# Altium footprint library UZOhm_Optical.PcbLib: 26 footprints (part 1 of 2)
Each footprint in its own frame and in the unit in brackets; x right, y up, seen from the top. Pads: shape width x height; smd on the part's side, far side on the other; paste and mask are expansions set on the pad; w line width, h text height; cw(c..) or ccw(c..) is an arc to the next point about the centre after c.
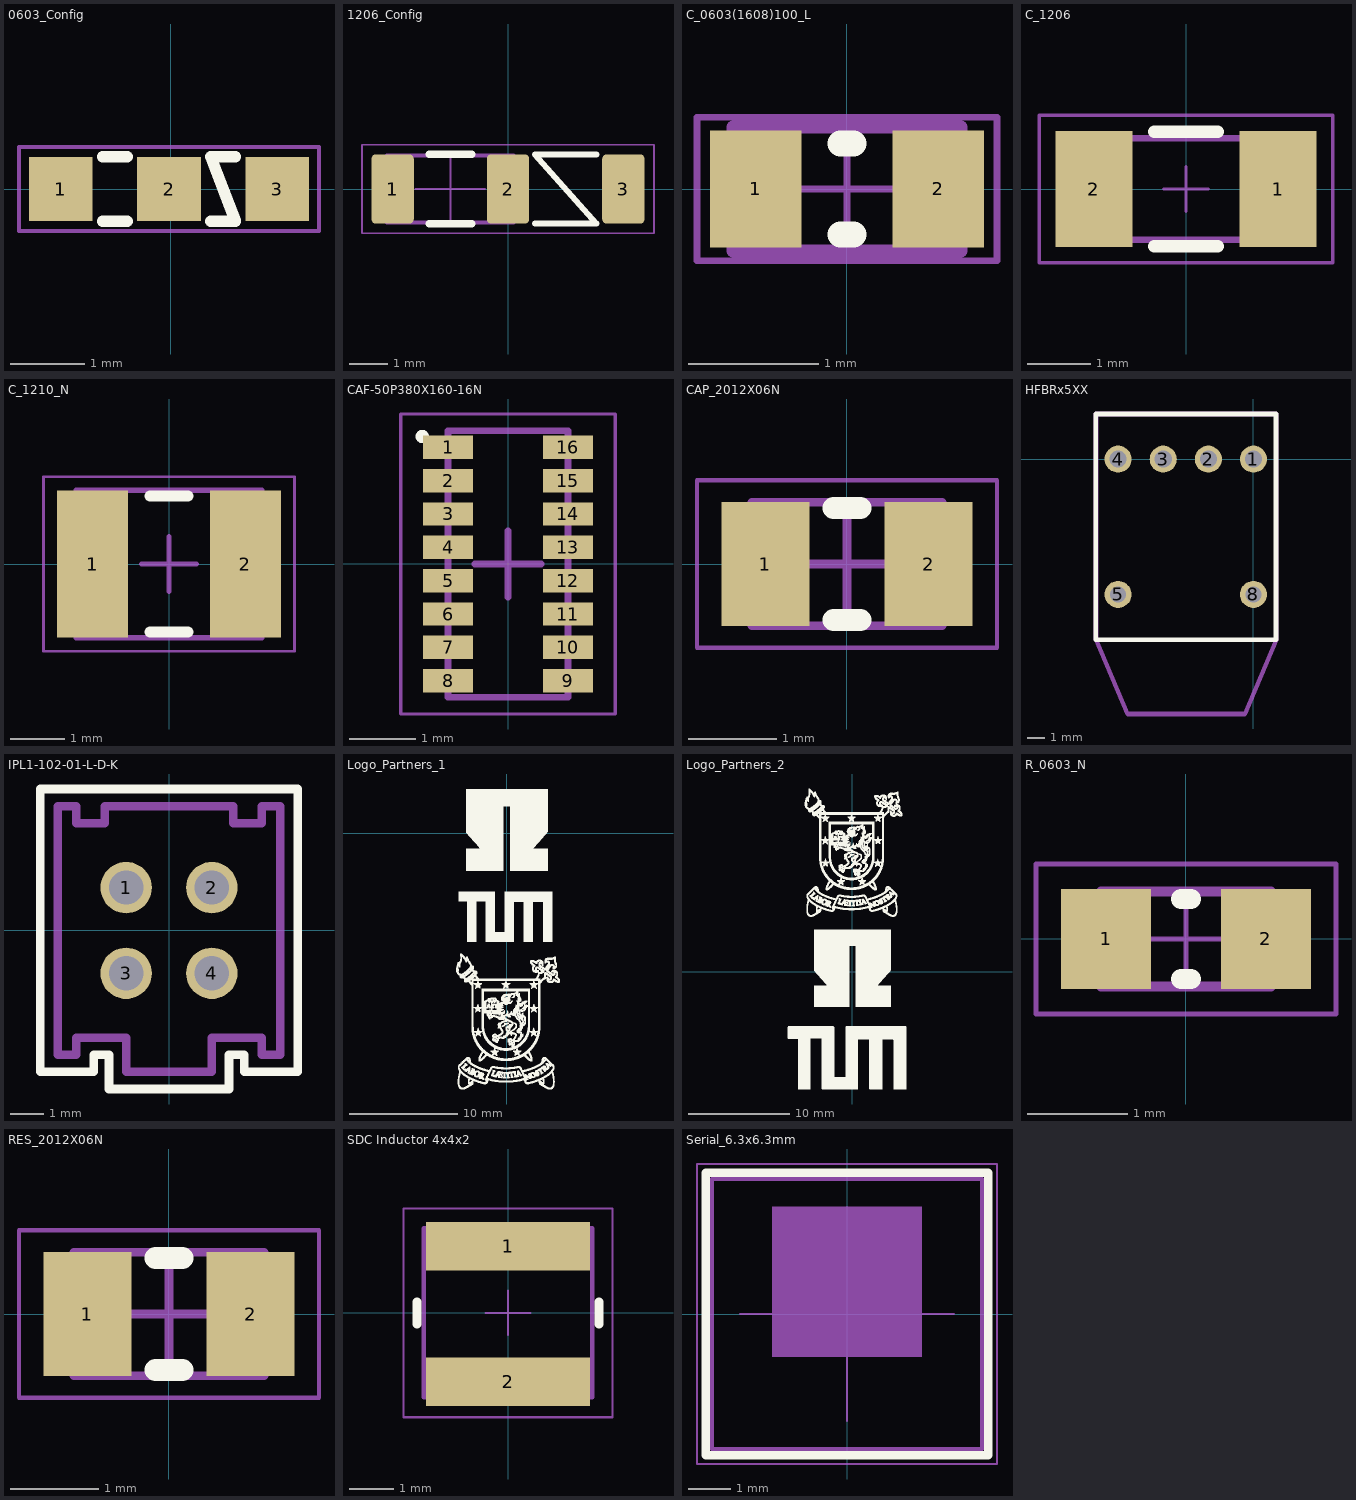
[diagram p0: the footprints below, top view; thin cyan lines are the x and y axes]

## 0603_Config [mm] "0603 3-Pin Config Footprint"
height 1
pads (3):
  rect 0.85x0.85 smd: 1(-1.475,0) 2(-0.025,0) 3(1.425,0)
Top Overlay:
  lines w0.152: -0.914,-0.432 -0.584,-0.432 ; -0.914,0.432 -0.584,0.432 ; 0.533,-0.432 0.864,-0.432 0.533,0.432 0.864,0.432
Mechanical 5:
  text ".Designator" at -5.461,-0.889 h1.02
Mechanical 7:
  lines w0.054: -2.032,-0.559 -2.032,0.559 1.981,0.559 1.981,-0.559 -2.032,-0.559
3D body: height 2.8, standoff -2.8, extent -1.537,-1.143 -1.537,-1.143
3D body "User Library-RESC1608X___.STEP": height 0.3, standoff 0, extent -1.55,-0.4 0.05,0.4

## 1206_Config [mm] "1206 3-Pin Config Footprint"
height 1
pads (3):
  rrect20% 1.1x1.8 smd: 1(-3,0) 2(0,0) 3(3,0)
Top Overlay:
  lines w0.152: 0.7,-0.9 2.3,-0.9 0.7,0.9 2.3,0.9
  lines w0.2: -2.05,-0.9 -0.95,-0.9 ; -2.05,0.9 -0.95,0.9
Mechanical 13:
  lines w0.1: -2.6,-0.875 -2.6,0.875 ; -0.4,-0.875 -0.4,0.875 ; -3.15,-0.875 -3.15,0.875 0.15,0.875 0.15,-0.875 -1.5,-0.875 -3.15,-0.875
  text ".Designator" at -0.7,0.4 h1
Mechanical 15:
  lines w0.05: -2.4,0 -1.5,0 ; -1.5,-0.9 -1.5,0 ; -1.5,0.9 -1.5,0 ; -0.6,0 -1.5,0 ; -3.8,-1.15 -3.8,1.15 3.8,1.15 3.8,-1.15 -1.5,-1.15 -3.8,-1.15
3D body: height 2.8, standoff -2.8, extent -1.537,1.357 -1.537,1.357
3D body "RESC3216X06N.STEP": height 0.55, standoff 0, extent -3.1,-0.8 0.1,0.8

## C_0603(1608)100_L [mm] "Chip Capacitor, Body 1.6x0.8mm, Height 1.0mm, IPC High Density"
height 1
pads (2):
  rect 0.7x0.9 smd: 1(-0.7,0) 2(0.7,0)
Top Overlay:
  lines w0.2: -0.05,-0.35 0.05,-0.35 ; -0.05,0.35 0.05,0.35
Mechanical 5:
  lines w0.1: -0.875,-0.475 -0.875,0.475 0.875,0.475 0.875,-0.475 -0.875,-0.475
  text ".Designator" at -5.664,-0.889 h1.02
Mechanical 15:
  lines w0.05: -0.475,0 0.475,0 ; 0,-0.475 0,0.475 ; -1.15,-0.55 -1.15,0.55 1.15,0.55 1.15,-0.55 -1.15,-0.55
3D body "User Library-CapCeramic_Kemet_0603_1608.STEP": height 0.8, standoff 0, extent -0.8,-0.4 0.8,0.4

## C_1206 [mm]
height 1.8
pads (2):
  rect 1.21x1.82 smd: 1(1.45,0) 2(-1.45,0)
Top Overlay:
  lines w0.2: -0.5,-0.9 0.5,-0.9 ; -0.5,0.9 0.5,0.9
Mechanical 5:
  lines w0.1: -1.1,-0.8 -1.1,0.8 ; 1.1,-0.8 1.1,0.8 ; -1.6,-0.8 1.6,-0.8 1.6,0.8 -1.6,0.8 -1.6,-0.8
  text ".Designator" at -6.299,-0.838 h1.02
Mechanical 15:
  lines w0.05: -0.35,0 0.35,0 ; 0,-0.35 0,0.35 ; -2.31,-1.16 -2.31,1.16 2.31,1.16 2.31,-1.16 -2.31,-1.16
3D body "User Library-CAPC3216X___CAPC3216X180N.STEP": height 1.82, standoff 0, extent -1.6,-0.81 1.6,0.81

## C_1210_N [mm] "Chip Capacitor, 2-Leads, Body 3.4x2.7mm, IPC Medium Density"
height 2.8
pads (2):
  rect 1.3x2.7 smd: 1(-1.4,0) 2(1.4,0)
Top Overlay:
  lines w0.2: -0.35,-1.25 0.35,-1.25 ; -0.35,1.25 0.35,1.25
Mechanical 5:
  lines w0.1: -1.7,-1.35 -1.7,1.35 1.7,1.35 1.7,-1.35 -1.7,-1.35
  text ".Designator" at -5.283,-0.762 h1.02
Mechanical 15:
  lines w0.05: -2.3,-1.6 -2.3,1.6 2.3,1.6 2.3,-1.6 -2.3,-1.6
  lines w0.1: -0.5,0 0.5,0 ; 0,-0.5 0,0.5
3D body: height 2.8, standoff 0, extent -1.2,-1.35 1.2,1.35
3D body: height 2.8, standoff 0, extent -1.7,-1.35 -1.2,1.35
3D body: height 2.8, standoff 0, extent 1.2,-1.35 1.7,1.35

## CAF-50P380X160-16N [mm] "Chip Array, Flat, 16-Leads, Pitch 0,50mm,  Body 3,80x1,60mm,  IPC Medium Density"
height 0.6
pads (16):
  rect 0.75x0.35 smd: 1(-0.9,1.75) 2(-0.9,1.25) 3(-0.9,0.75) 4(-0.9,0.25) 5(-0.9,-0.25) 6(-0.9,-0.75) 7(-0.9,-1.25) 8(-0.9,-1.75) 9(0.9,-1.75) 10(0.9,-1.25) 11(0.9,-0.75) 12(0.9,-0.25) 13(0.9,0.25) 14(0.9,0.75) 15(0.9,1.25) 16(0.9,1.75)
Top Overlay:
  circle w0.1: c-1.287,1.913 r0.05
Mechanical 5:
  lines w0.1: -0.9,-2 -0.9,2 0.9,2 0.9,-2 -0.9,-2
  text ".Designator" at 0.889,-5.283 h1.02
Mechanical 15:
  lines w0.05: -1.61,-2.25 1.61,-2.25 1.61,2.25 -1.61,2.25 -1.61,-2.25
  lines w0.1: -0.5,0 0.5,0 ; 0,-0.5 0,0.5
3D body "0402_Rarray_8.step": height 0.45, standoff 0, extent -0.8,-2 0.8,2

## CAP_2012X06N [mm] "Chip Resistor, 2-Leads, Body 2,00x1,25mm, IPC Medium Density"
height 0.6
pads (2):
  rect 1x1.4 smd: 1(-0.925,0) 2(0.925,0)
Top Overlay:
  lines w0.254: -0.152,-0.635 0.152,-0.635 ; -0.152,0.635 0.152,0.635
Mechanical 5:
  lines w0.1: -1.075,-0.7 1.075,-0.7 1.075,0.7 -1.075,0.7 -1.075,-0.7
  text ".Designator" at -5.588,-0.787 h1.02
Mechanical 15:
  lines w0.05: -1.7,-0.95 -1.7,0.95 1.7,0.95 1.7,-0.95 -1.7,-0.95
  lines w0.1: -0.5,0 0.5,0 ; 0,-0.5 0,0.5
3D body "User Library-CAP0805-1.STEP": height 1.25, standoff 0, extent -1,-0.625 1,0.625

## HFBRx5XX [mil]
pads (6):
  round 60 hole 38: 1(0,0) 2(-100,0) 3(-200,0) 4(-300,0)
  round 60 hole 35: 5(-300,-300) 8(0,-300)
Top Overlay:
  lines w10: -350,-400 50,-400 50,100 -350,100 -350,-400
Mechanical 5:
  lines w10: -349,-400 -279,-565 -19,-565 51,-400 51,100 -349,100 -349,-400
  text ".Designator" at -352,-201 h40
3D body "Avago HFBR-0500ETZ Series.stp": height 343.94, standoff -100.16, extent -349.96,-610 129.96,130.12

## ID_ProjectRev [mm] "project name + revision number"
Top Overlay:
  text ".ProjectName .ProjectRevision / .Author .Date" at -2.727,-0.335 h1.78

## IPL1-102-01-L-D-K [mil]
pads (4):
  round 60 hole 40 mask+3: 1(-50,50) 2(50,50) 3(-50,-50) 4(50,-50)
Top Overlay:
  lines w10: -95,165 95,165 ; -88,165 -150,165 -150,-165 -88,-165 -88,-145 -70,-145 -70,-185 70,-185 70,-145 88,-145 88,-165 150,-165 150,165 88,165
Mechanical 5:
  lines w10: -130,-145 -108,-145 -108,-125 -50,-125 -50,-165 50,-165 50,-125 108,-125 108,-145 130,-145 130,145 108,145 108,125 75,125 75,145 -75,145 -75,125 -108,125 -108,145 -130,145 -130,-145
  text ".Designator" at -19.68,-19.68 h30
3D body "IPL1-102-01-F-D-K.stp": height 320, standoff -120, extent -130,-165 130,145

## Logo_Partners_1 [mm] "THN, TUM and USACH Logo"
Top Overlay:
  drawing of 11309 lines, arcs and shapes, not listed

## Logo_Partners_2 [mm] "USACH, THN and TUM Logo"
Top Overlay:
  drawing of 13619 lines, arcs and shapes, not listed

## R_0603_N [mm] "SMD Resistor, Body 1.6x0.8mm, IPC Medium Density"
height 0.6
pads (2):
  rect 0.9x1 smd: 1(-0.8,0) 2(0.8,0)
Top Overlay:
  lines w0.2: -0.05,-0.4 0.05,-0.4 ; -0.05,0.4 0.05,0.4
Mechanical 5:
  lines w0.1: -0.85,-0.475 -0.85,0.475 0.85,0.475 0.85,-0.475 -0.85,-0.475
  text ".Designator" at -5.613,-0.864 h1.02
Mechanical 15:
  lines w0.05: -0.475,0 0.475,0 ; 0,-0.475 0,0.475 ; -1.5,-0.75 1.5,-0.75 1.5,0.75 -1.5,0.75 -1.5,-0.75
3D body "0603-Rchip.step": height 0.44, standoff -0.01, extent -0.8,-0.4 0.8,0.4

## RES_2012X06N [mm] "Chip Resistor, 2-Leads, Body 2,00x1,25mm, IPC Medium Density"
height 0.6
pads (2):
  rect 1x1.4 smd: 1(-0.925,0) 2(0.925,0)
Top Overlay:
  lines w0.254: -0.152,-0.635 0.152,-0.635 ; -0.152,0.635 0.152,0.635
Mechanical 5:
  lines w0.1: -1.075,-0.7 1.075,-0.7 1.075,0.7 -1.075,0.7 -1.075,-0.7
  text ".Designator" at -5.588,-0.787 h1.02
Mechanical 15:
  lines w0.05: -1.7,-0.95 -1.7,0.95 1.7,0.95 1.7,-0.95 -1.7,-0.95
  lines w0.1: -0.5,0 0.5,0 ; 0,-0.5 0,0.5
3D body "User Library-RESC2012X05N.STEP": height 0.45, standoff 0, extent -1,-0.629 1,0.621

## SDC Inductor 4x4x2 [mm] "Power Inductor, SMD, 2-Leads, body 4x4mm"
height 2
pads (2):
  rect 3.7x1.1 smd: 1(0,1.5) 2(0,-1.55)
Top Overlay:
  lines w0.2: -2.05,-0.25 -2.05,0.25 ; 2.05,-0.25 2.05,0.25
Mechanical 5:
  lines w0.1: -1.9,-1.9 1.9,-1.9 1.9,1.9 -1.9,1.9 -1.9,-1.9
  text ".Designator" at -5.69,-0.813 h1.02
Mechanical 15:
  lines w0.05: -0.5,0 0.5,0 ; 0,-0.5 0,0.5 ; -2.35,-2.35 -2.35,2.35 2.35,2.35 2.35,-2.35 -2.35,-2.35
3D body "744031xxx.stp": height 1.65, standoff 0, extent -1.9,-1.9 1.9,1.9

## Serial_6.3x6.3mm [mm]
Top Overlay:
  lines w0.2: -3.3,-3.3 3.3,-3.3 3.3,3.3 -3.3,3.3 -3.3,-3.3
Mechanical 5:
  region: -1.75,2.5 -1.75,-1 1.75,-1 1.75,2.5
  lines w0.1: -3.15,-3.15 3.15,-3.15 3.15,3.15 -3.15,3.15 -3.15,-3.15
  text "SerialNr" at 2.5,-1.7 h0.7
Mechanical 15:
  lines w0.05: -2.5,0 2.5,0 ; 0,-2.5 0,2.5 ; -3.5,-3.5 3.5,-3.5 3.5,3.5 -3.5,3.5 -3.5,-3.5